# EAGLE library part AD745 (library analog-devices)
Ultralow Noise, High Speed, BiFET Op Amp Course: http://www.analog.com/static/imported-files/data_sheets/AD745.pdf
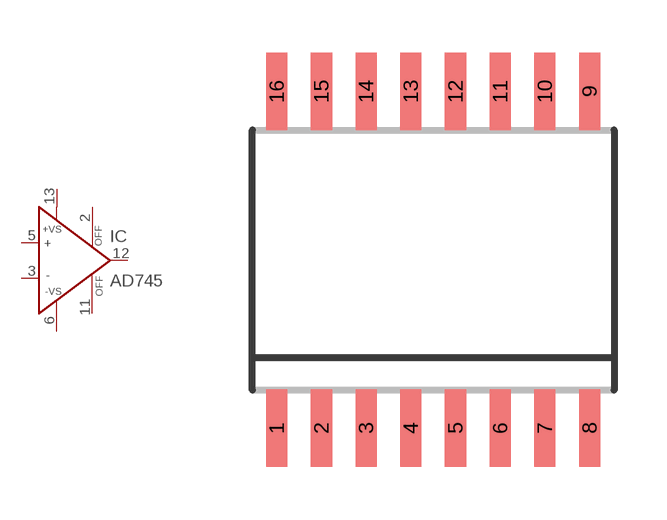
[diagram p85: symbol with the pads of SOIC16R; footprint SOIC16R]

Designator prefix IC

## AD745R (MF: ALTERA CORPORATION; MPN: AD745JRZ-16; OC_FARNELL: 1838876; OC_NEWARK: 59K4819)  [SOIC16R]
2  OFF  pas
3  IN-  in
5  IN+  in
6  -VS  in
11  OFF  pas
12  OUT  out
13  +VS  in

## Footprint SOIC16R (pad centres in mm)
16-Lead SOIC (R) Package Source: http://www.analog.com/static/imported-files/data_sheets/AD745.pdf
smd 0.6 x 2.2: 1 -4.445,-4.775; 2 -3.175,-4.775; 3 -1.905,-4.775; 4 -0.635,-4.775; 5 0.635,-4.775; 6 1.905,-4.775; 7 3.175,-4.775; 8 4.445,-4.775; 9 4.445,4.8; 10 3.175,4.8; 11 1.905,4.8; 12 0.635,4.8; 13 -0.635,4.8; 14 -1.905,4.8; 15 -3.175,4.8; 16 -4.445,4.8